# Altium integrated library InductorIntegrated.IntLib: 2 symbols
Pins are listed as number, name and electrical type; pins without a type are passive.

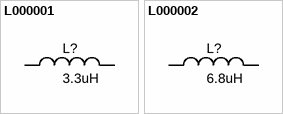
[diagram p0: symbols L000001 to L000002]

## L000001
designator L?, comment 3.3uH
IND 3.3uH 8A 20.9mOHM 12A ISAT; inductanse: 3.3uH; ComponentLink1Description: digikey; ComponentLink1URL: https://www.digikey.com/en/products/detail/bourns-inc/SRP7050TA-3R3M/5429687
pins: 1, 2

## L000002
designator L?, comment 6.8uH
IND 6.8uH 8A 23.3mOHM 13.5A ISAT; inductanse: 6.8uH; ComponentLink1Description: digikey; ComponentLink1URL: https://www.digikey.com/en/products/detail/vishay-dale/IHLP4040DZER6R8M01/1220696
footprint INDM108103X40N (Molded Inductor, 2-Leads, Body 10.80x10.31mm, IPC Medium Density)
pins: 1, 2